# EAGLE library part LP2951ACNG (library ON Semiconductor_By_element14_Batch_1)
Dropout Voltage Regulator
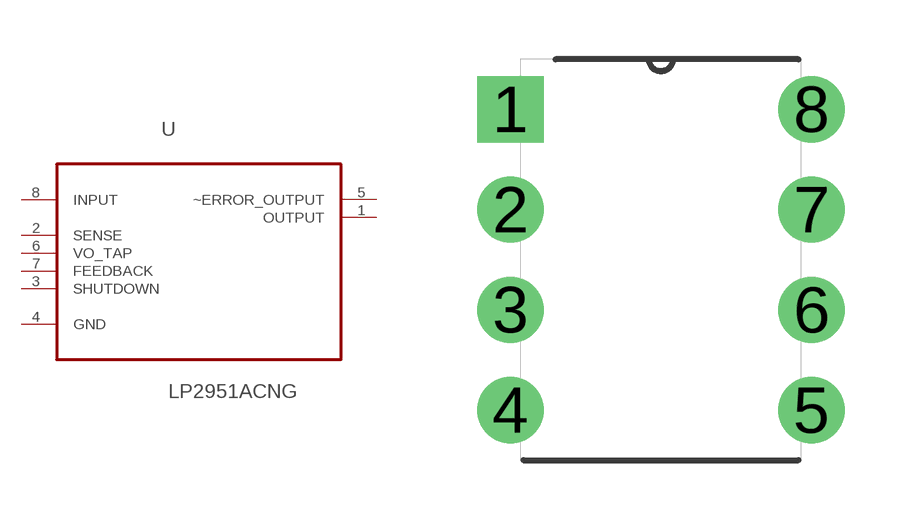
[diagram p72: symbol with the pads of DIP254P762X533-8; footprint DIP254P762X533-8]

Designator prefix U

## LP2951ACNG (MPN: LP2951ACNG; OC_FARNELL: 1213692; OC_NEWARK: 70K3006; P1I: o; PACKAGE: PDIP-8; SUPPLIER: ON SEMICONDUCTOR)  [DIP254P762X533-8]
1  OUTPUT  out
2  SENSE  in
3  SHUTDOWN  in
4  GND  pas
5  ~ERROR_OUTPUT  out
6  VO_TAP  in
7  FEEDBACK  in
8  INPUT  pwr

## Footprint DIP254P762X533-8 (pad centres in mm)
drill 1.118 square: 1 -7.62,7.62
drill 1.118: 2 -7.62,5.08; 3 -7.62,2.54; 4 -7.62,0; 5 0,0; 6 0,2.54; 7 0,5.08; 8 0,7.62